# EAGLE library part FT231X (library FTDI)
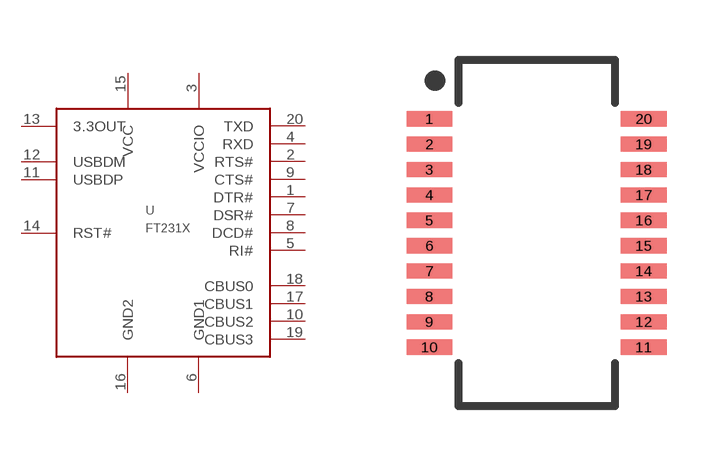
[diagram p0: symbol with the pads of SSOP20-L; footprint SSOP20-L]

Designator prefix U

## FT231X (PKG: S)  [SSOP20-L]
1  DTR#
2  RTS#
3  VCCIO
4  RXD
5  RI#
6  GND1
7  DSR#
8  DCD#
9  CTS#
10  CBUS2
11  USBDP
12  USBDM
13  3.3OUT
14  RST#
15  VCC
16  GND2
17  CBUS1
18  CBUS0
19  CBUS3
20  TXD

## Footprint SSOP20-L (pad centres in mm)
smd 1.143 x 0.381: 1 -2.68,2.857; 2 -2.68,2.223; 3 -2.68,1.587; 4 -2.68,0.953; 5 -2.68,0.318; 6 -2.68,-0.318; 7 -2.68,-0.953; 8 -2.68,-1.587; 9 -2.68,-2.223; 10 -2.68,-2.857; 11 2.68,-2.857; 12 2.68,-2.223; 13 2.68,-1.587; 14 2.68,-0.953; 15 2.68,-0.318; 16 2.68,0.318; 17 2.68,0.953; 18 2.68,1.587; 19 2.68,2.223; 20 2.68,2.857